# Altium schematic symbol library 1072.SchLib: 1 symbol
Pins are listed as number, name and electrical type; pins without a type are passive.

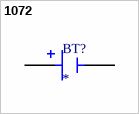
[diagram p0: symbol 1072]

## 1072
designator BT?
Battery Holder CR1220/1225; MF: Keystone Electronics; MP: 1072; Purchase-URL: https://pricing.snapeda.com/search/part/1072/?ref=eda; Package: None; Check_prices: https://www.snapeda.com/parts/1072/Keystone+Electronics/view-part/?ref=eda; Value: *; SnapEDA_Link: https://www.snapeda.com/parts/1072/Keystone+Electronics/view-part/?ref=snap
footprint BAT_1072
pins: N NEG, P POS